# Altium schematic symbol library Transmitter 2.4GHz.SCHLIB: 18 symbols
Pins are listed as number, name and electrical type; pins without a type are passive.

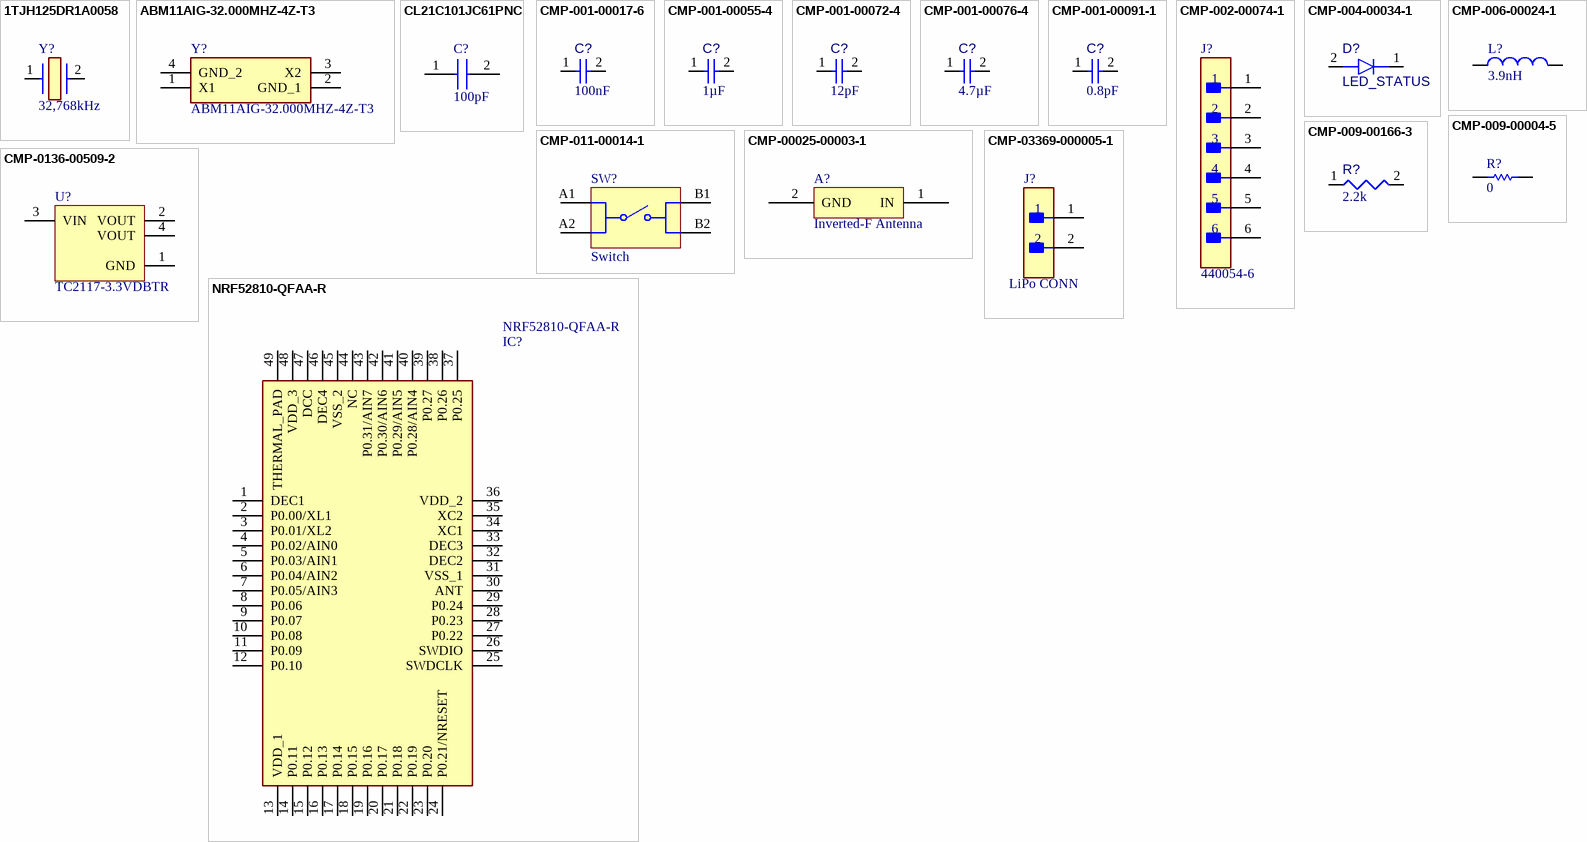
[diagram p0: symbols 1TJH125DR1A0058 to NRF52810-QFAA-R]

## 1TJH125DR1A0058
designator Y?, comment 32,768kHz
Crystal or Oscillator; Manufacturer_Name: KDS Daishinku; Manufacturer_Part_Number: 1TJH125DR1A0058; Datasheet Link: https://datasheet.lcsc.com/szlcsc/1810301228_KDS-Daishinku-1TJH125DR1A0058_C253734.pdf; Height: 0.5mm
footprint 1TJH125DR1A0058
pins: 1, 2

## ABM11AIG-32.000MHZ-4Z-T3
designator Y?
Crystal or Oscillator; Manufacturer_Name: ABRACON; Datasheet Link: https://abracon.com/AIGcrystals/ABM11AIG.pdf; Height: 0.55mm; Manufacturer_Part_Number: ABM11AIG-32.000MHZ-4Z-T3; Mouser Part Number: 815-M11AIG-32-4ZT3; Mouser Price/Stock: https://www.mouser.co.uk/ProductDetail/ABRACON/ABM11AIG-32.000MHZ-4Z-T3?qs=gG6m684uYP6ePIn58i2qHg%3D%3D; Arrow Part Number: ABM11AIG-32.000MHZ-4Z-T3; Arrow Price/Stock: https://www.arrow.com/en/products/abm11aig-32.000mhz-4z-t3/abracon.html?utm_currency=USD&region=nac
footprint ABM11AIG16000MHZ81ZT
pins: 1 X1, 2 GND_1, 3 X2, 4 GND_2

## CL21C101JC61PNC
designator C?, comment 100pF
Capacitor; Manufacturer_Name: SAMSUNG; Manufacturer_Part_Number: CL21C101JC61PNC; Datasheet Link: https://datasheet.datasheetarchive.com/originals/distributors/Datasheets-DGA8/2472830.pdf; Height: 1.35mm; Mouser Part Number: 187-CL21C101JC61PNC; Mouser Price/Stock: https://www.mouser.co.uk/ProductDetail/Samsung-Electro-Mechanics/CL21C101JC61PNC?qs=Ay79KZaUeZC4hCSSt5%2FdPg%3D%3D; Arrow Part Number: CL21C101JC61PNC; Arrow Price/Stock: https://www.arrow.com/en/products/cl21c101jc61pnc/samsung-electro-mechanics?utm_currency=USD&region=nac
footprint CAPC2012X135N
pins: 1, 2

## CMP-001-00017-6
designator C?, comment value 100nF  (hidden comment: Capacitor 100 nF +/-10% 50 V 0603)
Chip Capacitor, 100 nF, +/- 10%, 50 V, 0603 (1608 Metric); Manufacturer: KYOCERA AVX; Manufacturer Part Number: 06035C104KAT2A; Manufacturer: Yageo Group; Manufacturer Part Number: CC0603KRX7R9BB104; Manufacturer: Murata; Manufacturer Part Number: GRM188R71H104KA93D; Voltage Rating: 50V; Capacitor Type: Ceramic; Tolerance: 10%; Mounting Technology: SM; Max Operating Temperature: 125°C; RoHS Compliant: True; Pins: 2; Case/Package: 0603; Min Operating Temperature: -55°C; Component Type: Capacitors
footprint CAPC1608X90X40NL10T20 (Chip Capacitor, 2-Leads, Body 1.70x0.90mm, IPC Medium Density)
footprint CAPC1608X90X40LL10T20 (Chip Capacitor, 2-Leads, Body 1.70x0.90mm, IPC High Density)
footprint CAPC1608X90X40ML10T20 (Chip Capacitor, 2-Leads, Body 1.70x0.90mm, IPC Low Density)
pins: 1, 2

## CMP-001-00055-4
designator C?, comment value 1µF  (hidden comment: Capacitor 1µF +/-0.1% 25V 0603)
Chip Capacitor, 1µF +/-0.1%, 25V, 0603, Thickness 1 mm; Manufacturer: TDK; Manufacturer Part Number: CGA3E3X5R1E105K080AB; Manufacturer: Yageo Group; Manufacturer Part Number: CC0603KRX5R8BB105; Manufacturer: Samsung Electro-Mechanics; Manufacturer Part Number: CL10A105KA8NNNC; Manufacturer Part Number: CL10A105KA8NFNC; Tolerance: 20%; Min Operating Temperature: -55°C; Max Operating Temperature: 85°C; Voltage Rating: 25V; Mounting Technology: SMT; Case/Package: 0603; Pins: 2; Component Type: Capacitors
footprint CAPC0603(1608)100_L (Chip Capacitor, Body 1.6x0.8mm, Height 1.0mm, IPC High Density)
pins: 1, 2

## CMP-001-00072-4
designator C?, comment value 12pF  (hidden comment: Capacitor 12pF +/-10% 50V 0402)
Chip Capacitor, 12pF +/-10%, 50V, 0402, Thickness 0.33 mm; Manufacturer: Murata; Manufacturer Part Number: GRM1535C1H120JDD5D; Manufacturer: Yageo Group; Manufacturer Part Number: C0402C120J5GACTU; Manufacturer Part Number: C0402C120J5GACAUTO; Manufacturer: Vishay; Manufacturer Part Number: VJ0402A120JXACW1BC; Manufacturer: TDK; Manufacturer Part Number: CGA2B2C0G1H120J050BA; Manufacturer Part Number: GCM1555C1H120JA16D; Tolerance: 20%; Pins: 2; Max Operating Temperature: 85°C; Case/Package: 0402; Voltage Rating: 50V; Mounting Technology: SMT; Min Operating Temperature: -55°C; Component Type: Capacitors
footprint CAPC0402(1005)33_L (Chip Capacitor, Body 1.0x0.5mm, Height 0.33mm, IPC High Density)
pins: 1, 2

## CMP-001-00076-4
designator C?, comment value 4.7µF  (hidden comment: Capacitor 4.7µF +/-20% 10V 0603)
Chip Capacitor, 4.7µF +/-20%, 10V, 0603, Thickness 1 mm; Manufacturer: Kyocera AVX; Manufacturer Part Number: 0603ZD475KAT2A; Manufacturer: Yageo Group; Manufacturer Part Number: CC0603KRX5R6BB475; Manufacturer Part Number: C0603C475K8PAC; Manufacturer Part Number: C0603C475K8PACTU; Manufacturer: TDK; Manufacturer Part Number: C1608X6S1A475K; Manufacturer Part Number: C1608X5R1A475K/0.80; Manufacturer Part Number: C1608X5R1A475K/0.50; Tolerance: 10%; Mounting Technology: SMT; Case/Package: 0603; Pins: 2; Min Operating Temperature: -55°C; Max Operating Temperature: 85°C; Voltage Rating: 10V; Component Type: Capacitors
footprint CAPC0603(1608)100_L (Chip Capacitor, Body 1.6x0.8mm, Height 1.0mm, IPC High Density)
pins: 1, 2

## CMP-001-00091-1
designator C?, comment value 0.8pF  (hidden comment: 04023J0R8ABSTR)
0402 0.8 pF 25 V ±0.5 pF Tolerance SMT Thin-Film RF/Microwave Capacitor; Manufacturer: KYOCERA AVX; Voltage Rating: 25V; Min Operating Temperature: -55°C; Max Operating Temperature: 125°C; Case/Package: 0402; Pins: 2; Mounting Technology: Surface Mount; Manufacturer Part Number: 04023J0R8ABSTR; Component Type: Capacitors
footprint CAPC1005X06N (Chip Capacitor, 2-Leads, Body 1,00x0,50mm, IPC Medium Density)
pins: 1, 2

## CMP-002-00074-1
designator J?, comment 440054-6
Pin Header, Wire-to-Board, 2 mm, 1 Rows, 6 Contacts, Through Hole Straight, HPI Series; Manufacturer: TE Connectivity; Connector Type: Header, Pin, Plug; Voltage Rating: 250V; Max Operating Temperature: 85°C; Pins: 6; Mounting Technology: Through Hole; Min Operating Temperature: -25°C; Manufacturer Part Number: 440054-6; Component Type: Connectors
footprint FP-440054-6-MFG
pins: 1, 2, 3, 4, 5, 6

## CMP-004-00034-1
designator D?, comment LED_STATUS
1.6 X 0.8 MM SMD CHIP LED LAMP Single Color LED, Green, Water Clear, 0.7mm; Manufacturer: Kingbright; Manufacturer Part Number: APTD1608ZGC; Forward Current: 25mA; Forward Voltage: 3.3V; Max Operating Temperature: 85°C; Case/Package: 0603; Min Operating Temperature: -40°C; Mounting Technology: Surface Mount; Component Type: Diodes
footprint CAPCP1508X06N (Chip Capacitor, 2-Leads, Body 1,55x0,80mm, IPC Medium Density)
pins: 1 K, 2 A

## CMP-006-00024-1
designator L?, comment value 3.9nH  (hidden comment: 0402R-3N9J)
General Purpose Inductor, 0.0039uH, 5%, 1 Element, Ceramic-Core, SMD, 0402; Manufacturer: API Delevan; Current Rating: 840mA; Self Resonant Frequency: 5.8GHz; Case/Package: 0402; Max Operating Temperature: 125°C; Max Current Rating: 840mA; Mounting Technology: Surface Mount; Tolerance: 5%; Min Operating Temperature: -40°C; Manufacturer Part Number: 0402R-3N9J; Component Type: Inductors
footprint CAPC1005X06N (Chip Capacitor, 2-Leads, Body 1,00x0,50mm, IPC Medium Density)
pins: 1, 2

## CMP-009-00004-5
designator R?, comment value 0  (hidden comment: Resistor 0R 0402 63 mW)
Chip Resistor, 0 Ohm, 0.063 W, -55 to 155 degC, 0402 (1005 Metric); Manufacturer: Vishay; Manufacturer Part Number: CRCW04020000Z0ED; Manufacturer: Yageo Group; Manufacturer Part Number: RC0402JR-070RL; Power: 63mW; Voltage Rating: 50V; Max Operating Temperature: 155°C; Pins: 2; RoHS Compliant: True; Min Operating Temperature: -55°C; Mounting Technology: SM; Case/Package: 0402; Component Type: Resistors
footprint RESC1005X40X25ML05T10 (Chip Resistor, 2-Leads, Body 1.05x0.55mm, IPC Low Density)
footprint RESC1005X40X25NL05T10 (Chip Resistor, 2-Leads, Body 1.05x0.55mm, IPC Medium Density)
footprint RESC1005X40X25LL05T10 (Chip Resistor, 2-Leads, Body 1.05x0.55mm, IPC High Density)
pins: 1, 2

## CMP-009-00166-3
designator R?, comment value 2.2k  (hidden comment: Resistor 2K2  +/-5 % 0402 63 mW)
Chip Resistor, 2,2 kOhms, +/-5 %, 63 mW, -55 to 155 degC, 0402; Manufacturer: Panasonic; Manufacturer Part Number: ERJ-2GEJ222X; Manufacturer: Bourns; Manufacturer Part Number: CR0402-JW-222GLF; Manufacturer: Vishay; Manufacturer Part Number: CRCW04022K20JNEE; Manufacturer: Yageo Group; Manufacturer Part Number: RC0402JR-072K2L; Manufacturer Part Number: CRCW04022K20JNED; Manufacturer Part Number: CRCW04022K20JNTD; Manufacturer Part Number: CRCW04022K20JNTE; Power: 63mW; Tolerance: 5%; Pins: 2; Min Operating Temperature: -55°C; Max Operating Temperature: 155°C; Case/Package: 0402; Component Type: Resistors
footprint RESC0402(1005)_L (Chip Resistor, Body 1.0x0.5mm, IPC High Density)
pins: 1, 2
1 alternate drawing of the same symbol

## CMP-011-00014-1
designator SW?, comment Switch
Tactile Switch, 0.05A, 12Vdc, 260Gf, Smd Rohs Compliant: Yes; Manufacturer: Wurth Elektronik; Manufacturer Part Number: 430471035826; Voltage Rating: 12V; Throw Configuration: SPST; Current Rating: 50mA; Min Operating Temperature: -40°C; Max Operating Temperature: 85°C; Component Type: Switches
footprint 430471035826 (SMD Tact Switch, body 6x6mm)
pins: A1, A2, B1, B2

## CMP-00025-00003-1
designator A?, comment Inverted-F Antenna  (net tie, no BOM)
FR4 material 2.48GHz Inverted-F antenna; Frequency: 2.4GHz; Component Type: Radio&RF
footprint New footprint 1
pins: 1 IN, 2 GND

## CMP-0136-00509-2
designator U?, comment TC2117-3.3VDBTR
800 mA Fixed Low Dropout Positive Regulator, 3-Pin SOT-223, Extended Temperature, Tape and Reel; DatasheetVersion: revD, Sep-2010; PackageDescription: 3-Lead Plastic Small Outline Transistor (DB) [SOT-223]; PackageReference: SOT-223-DB3; PackageVersion: revBB, Aug-2009
footprint SOT-223-DB3_N (SOT223, 4-Leads, Body 6.5x3.5mm, Pitch 2.3mm, Lead Span 7mm, IPC Medium Density)
footprint SOT-223-DB3_L (SOT223, 4-Leads, Body 6.5x3.5mm, Pitch 2.3mm, Lead Span 7mm, IPC High Density)
footprint SOT-223-DB3_M (SOT223, 4-Leads, Body 6.5x3.5mm, Pitch 2.3mm, Lead Span 7mm, IPC Low Density)
pins: 1 GND (power), 2 VOUT (power), 3 VIN (power), 4 VOUT (power)

## CMP-03369-000005-1
designator J?, comment LiPo CONN
CONN HEADER VERT 2POS 2MM; Manufacturer: TE Connectivity; Manufacturer Part Number: 440054-2; Conn Gender: Male; Conn Orientation: Vertical; Voltage Rating: 250V; Number Of Contacts: 2; Current Rating: 3A; ComponentLink2Description: Datasheet; Temperature Range Low: -25°C; Contact Material: Tin,Nickel; Device Class L3: unset; Digikey Description: CONN HEADER VERT 2POS 2MM; Temperature: -25°C to +85°C; Mouser Description: Headers & Wire Housings 2.0mm HDR 2pos VERT HPI; Package: 440054-2; Lead Free: Yes; ComponentLink2URL: https://www.te.com/usa-en/product-440054-2.datasheet.pdf; Number Of Rows: 1; Octopart: https://octopart.com/440054-2-te+connectivity-40237927; Category: Conn; Temperature Range High: +85°C; Footprint Url: https://www.te.com/commerce/DocumentDelivery/DDEController?Action=showdoc&DocId=Customer+Drawing%7F440054%7FF6%7Fpdf%7FEnglish%7FENG_CD_440054_F6.pdf%7F440054-2; Pitch: 2mm; Device Class L1: Connectors; RoHS: TRUE; Height: 6.35mm; Device Class L2: Headers and Wire Housings; Automotive: No
footprint FP-440054-2-MFG
pins: 1, 2

## NRF52810-QFAA-R
designator IC?
Integrated Circuit; Manufacturer_Name: Nordic Semiconductor; Datasheet Link: http://infocenter.nordicsemi.com/pdf/nRF52810_PS_v1.0.pdf; Height: 0.9mm; Manufacturer_Part_Number: NRF52810-QFAA-R; Mouser Part Number: 949-NRF52810-QFAA-R; Mouser Price/Stock: https://www.mouser.co.uk/ProductDetail/Nordic-Semiconductor/NRF52810-QFAA-R?qs=gt1LBUVyoHmUcm9gtTuf%252BA%3D%3D; Arrow Part Number: NRF52810-QFAA-R; Arrow Price/Stock: https://www.arrow.com/en/products/nrf52810-qfaa-r/nordic-semiconductor?utm_currency=USD&region=nac
footprint QFN40P600X600X90-49N-D
pins: 1 DEC1, 2 P0.00/XL1, 3 P0.01/XL2, 4 P0.02/AIN0, 5 P0.03/AIN1, 6 P0.04/AIN2, 7 P0.05/AIN3, 8 P0.06, 9 P0.07, 10 P0.08, 11 P0.09, 12 P0.10, 13 VDD_1, 14 P0.11, 15 P0.12, 16 P0.13, 17 P0.14, 18 P0.15, 19 P0.16, 20 P0.17, 21 P0.18, 22 P0.19, 23 P0.20, 24 P0.21/NRESET, 25 SWDCLK, 26 SWDIO, 27 P0.22, 28 P0.23, 29 P0.24, 30 ANT, 31 VSS_1, 32 DEC2, 33 DEC3, 34 XC1, 35 XC2, 36 VDD_2, 37 P0.25, 38 P0.26, 39 P0.27, 40 P0.28/AIN4, 41 P0.29/AIN5, 42 P0.30/AIN6, 43 P0.31/AIN7, 44 NC, 45 VSS_2, 46 DEC4, 47 DCC, 48 VDD_3, 49 THERMAL_PAD